# Altium schematic symbol library 0805 100K.Schlib: 1 symbol
Pins are listed as number, name and electrical type; pins without a type are passive.

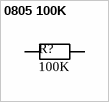
[diagram p0: symbol 0805 100K]

## 0805 100K
designator R?, comment value 100K  (hidden comment: Resistor)
Chip Resistor - Surface Mount 100KOhms ±1% 1/8W 0805 RoHS; ComponentLink1Description: LCSC - UNI-ROYAL(Uniroyal Elec) 0805W8F1002T5E; ComponentLink1URL: https://lcsc.com/product-detail/Chip-Resistor-Surface-Mount_Uniroyal-Elec-0805W8F1002T5E_C17414.html/?href=jlc-SMT; LCSC Part #: C17407
footprint RES 0805_2012 (Chip Resistor, 2-Leads, Body 2.00x1.25mm, IPC Medium Density)
pins: 1, 2